# EAGLE library part 62003221121 (library Eagle_BOARD-TO-BOARD_CONNECTORS (rev18b))
WR-PHD 2.00mm Dual Pin Header, 32 Pins=>Code : WR-PHD_Dual_Pin_Header_62003221121 <http://katalog.we-online.de/media/images/eican/WR-PHD_Dual_Pin_Header_6200xx21121.jpg> Details see: http://katalog.we-online.de/en/em/620_0xx_211_21 Created 2014-06-03, Karrer Zheng 2014 (C) Würth Elektronik
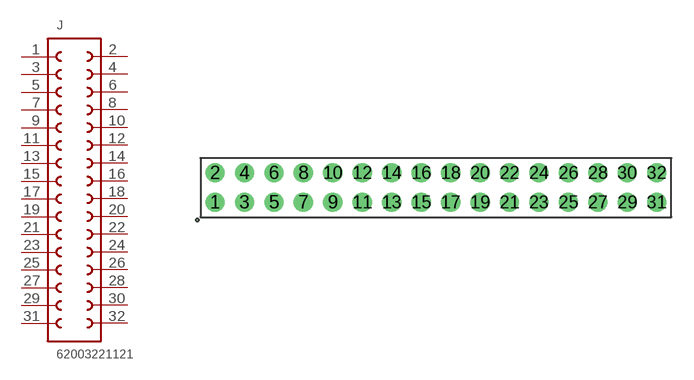
[diagram p228: symbol with the pads of 62003221121; footprint 62003221121]

Designator prefix J

## 62003221121  [62003221121]
1  1  pas
2  32  pas
3  2  pas
4  31  pas
5  3  pas
6  30  pas
7  4  pas
8  29  pas
9  5  pas
10  28  pas
11  6  pas
12  27  pas
13  7  pas
14  26  pas
15  8  pas
16  25  pas
17  9  pas
18  24  pas
19  10  pas
20  23  pas
21  11  pas
22  22  pas
23  12  pas
24  21  pas
25  13  pas
26  20  pas
27  14  pas
28  19  pas
29  15  pas
30  18  pas
31  16  pas
32  17  pas

## Footprint 62003221121 (pad centres in mm)
WR-PHD 2.00mm Dual Pin Header, 32 Pins
drill 0.8: 1 -15,-1; 2 -15,1; 3 -13,-1; 4 -13,1; 5 -11,-1; 6 -11,1; 7 -9,-1; 8 -9,1; 9 -7,-1; 10 -7,1; 11 -5,-1; 12 -5,1; 13 -3,-1; 14 -3,1; 15 -1,-1; 16 -1,1; 17 1,-1; 18 1,1; 19 3,-1; 20 3,1; 21 5,-1; 22 5,1; 23 7,-1; 24 7,1; 25 9,-1; 26 9,1; 27 11,-1; 28 11,1; 29 13,-1; 30 13,1; 31 15,-1; 32 15,1